# EAGLE library part HB100 (library microwave_radar)
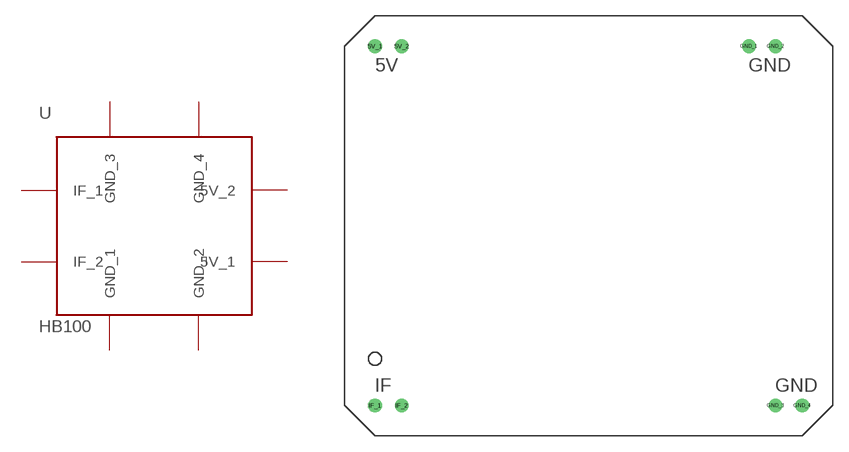
[diagram p1: symbol with the pads of HB100; footprint HB100]

Designator prefix U

## HB100  [HB100]
5V_1  5V_1
5V_2  5V_2
GND_1  GND_1
GND_2  GND_2
GND_3  GND_3
GND_4  GND_4
IF_1  IF_1
IF_2  IF_2

## Footprint HB100 (pad centres in mm)
drill 0.8: 5V_1 0,34.2; 5V_2 2.54,34.2; GND_1 35.62,34.2; GND_2 38.16,34.2; GND_3 38.16,0; GND_4 40.7,0; IF_1 0,0; IF_2 2.54,0